# Altium footprint library KST-51.PcbLib: 38 footprints (part 3 of 3)
Each footprint in its own frame and in the unit in brackets; x right, y up, seen from the top. Pads: shape width x height; smd on the part's side, far side on the other; paste and mask are expansions set on the pad; w line width, h text height; cw(c..) or ccw(c..) is an arc to the next point about the centre after c.
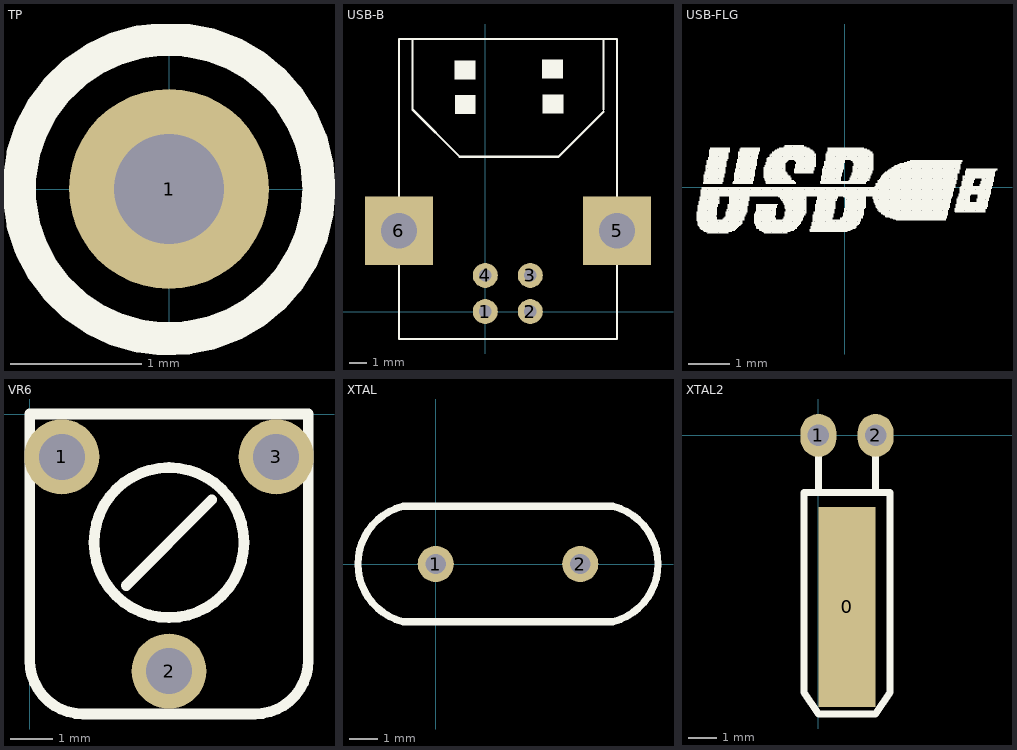
[diagram p2: the footprints below, top view; thin cyan lines are the x and y axes]

## TP [mil] "Test Point"
height 47.24
pads (1):
  round 60 hole 33: 1(0,0)
Top Overlay:
  circle w10: c0,0 r45

## USB-B [mil]
pads (6):
  round 55 hole 28: 1(0,0) 2(99,0) 3(99,79.74) 4(0,79.74)
  rect 150x150 hole 78.74: 5(290,177.74) 6(-190,177.74)
Top Overlay:
  rectangle: -68,510.74 -22,552.74
  rectangle: -67,434.74 -21,476.74
  rectangle: 125,512.74 171,554.74
  rectangle: 126,435.74 172,477.74
  lines w5: -190,464.74 -190,599.74 290,599.74 ; -190,479.74 -190,339.74 -190,-60.26 290,-60.26 290,222.74 ; -160,597.74 -160,444.74 -56,340.74 161,340.74 260,439.74 ; 260,444.74 260,598.74 ; 285,599.74 290,599.74 ; 290,224.74 290,481.74 ; 290,464.74 290,599.74

## USB-FLG [mil]
Top Overlay:
  drawing of 998 lines, arcs and shapes, not listed

## VR6 [mil]
pads (3):
  round 70 hole 43: 1(30,-40) 2(130,-240) 3(230,-40)
Top Overlay:
  circle w10: c130,-120 r70
  lines w10: 90,-160 170,-80 ; 0,-230 ccw(c50,-230) 50,-280 210,-280 ccw(c210,-230) 260,-230 260,0 0,0 0,-230

## XTAL [mil]
pads (2):
  round 50 hole 28: 1(0,0) 2(200,0)
Top Overlay:
  lines w10: -46.34,-79.65 cw(c-25,0) -46.34,79.65 ; -45,-80 245,-80 ; -45,80 245,80 ; 246.34,-79.65 ccw(c225,0) 246.34,79.65

## XTAL2 [mil]
pads (3):
  rect 80x280 smd: 0(40,-240)
  oval 50x60 hole 30: 1(0,0) 2(80,0)
Top Overlay:
  lines w10: 0,-80 0,-30 ; 80,-80 80,-30 ; -20,-360 0,-390 80,-390 100,-360 100,-80 -20,-80 -20,-360